# EAGLE library part NRF24 (library NRF)
nRF24 2.4ghz
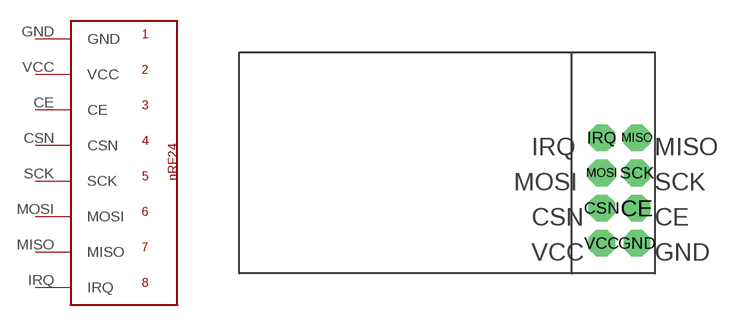
[diagram p0: symbol with the pads of NRF24; footprint NRF24]

Designator prefix -

## NRF24  [NRF24]
CE  CE
CSN  CSN
GND  GND
IRQ  IRQ
MISO  MISO
MOSI  MOSI
SCK  SCK
VCC  VCC

## Footprint NRF24 (pad centres in mm)
drill 0.8 pad 1.93 octagon: CE 12.7,-1.27; CSN 10.16,-1.27; GND 12.7,-3.81; IRQ 10.16,3.81; MISO 12.7,3.81; MOSI 10.16,1.27; SCK 12.7,1.27; VCC 10.16,-3.81